# Altium schematic symbol library 2220.SchLib: 1 symbol
Pins are listed as number, name and electrical type; pins without a type are passive.

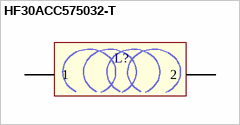
[diagram p0: symbol HF30ACC575032-T]

## HF30ACC575032-T
designator L?
FERRITE BEAD 270 OHM 2220 1LN; Manufacturer: TDK Corporation; Manufacturer Part Number: HF30ACC575032-T; Impedance: @ Frequency 270 Ohm @ 100MHz; Current Rating (Max): 3A; Digi-Key Part Number: 445-6167-1-ND
footprint 2220
pins: 1, 2